# Altium footprint library Resistors.PcbLib: 12 footprints
Each footprint in its own frame and in the unit in brackets; x right, y up, seen from the top. Pads: shape width x height; smd on the part's side, far side on the other; paste and mask are expansions set on the pad; w line width, h text height; cw(c..) or ccw(c..) is an arc to the next point about the centre after c.
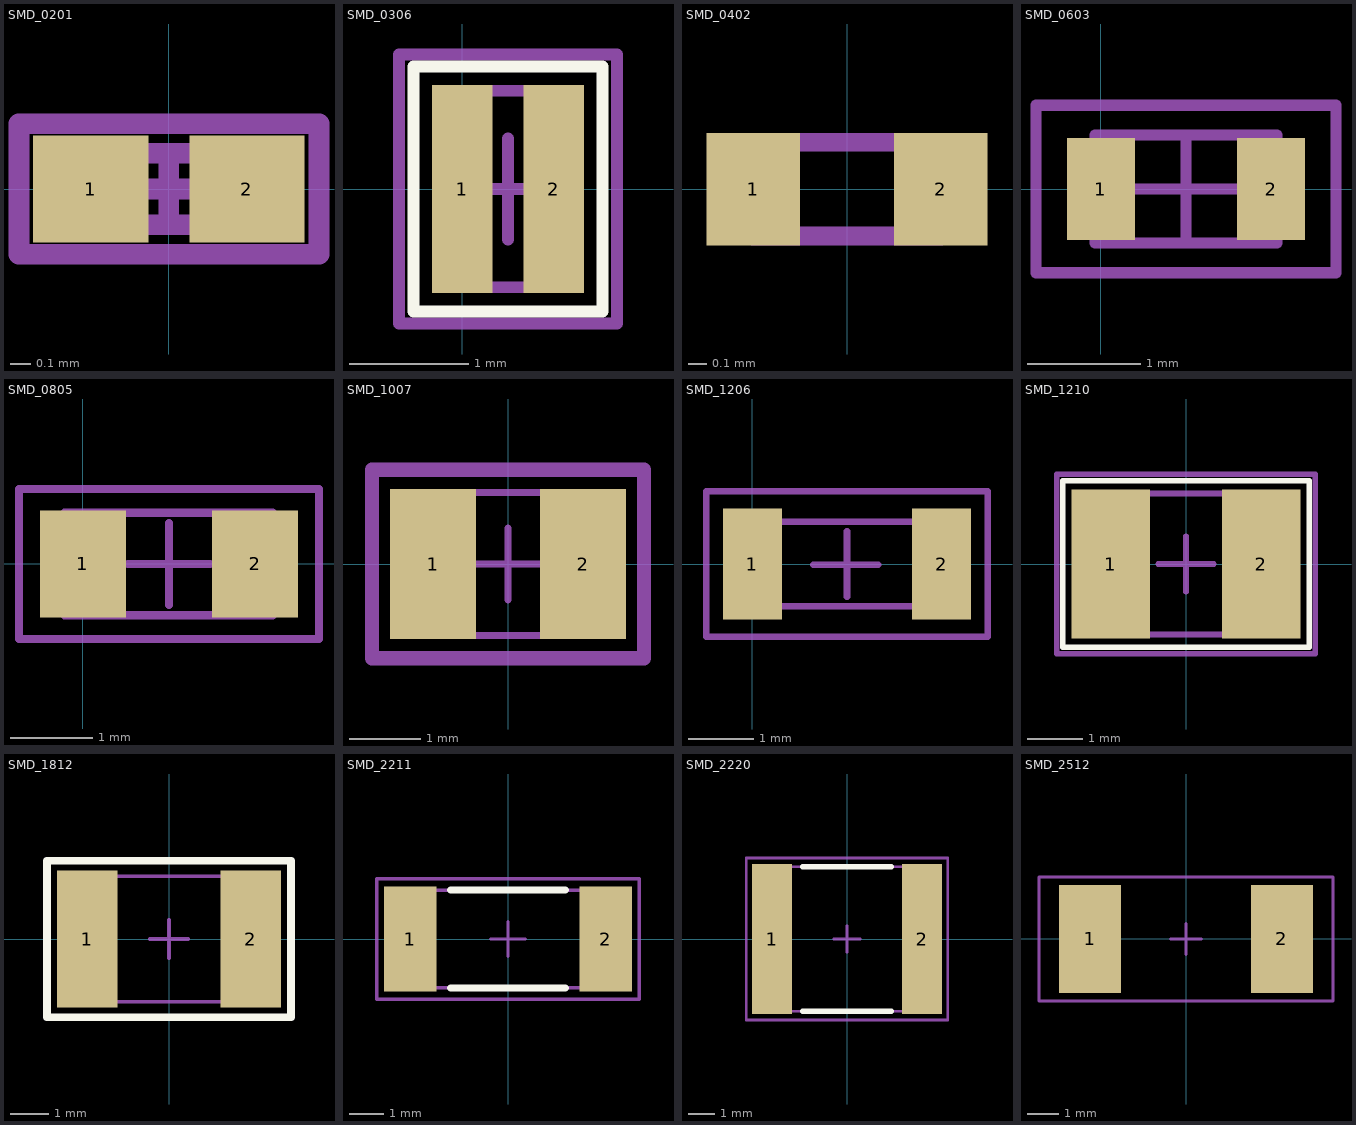
[diagram p0: the footprints below, top view; thin cyan lines are the x and y axes]

## SMD_0201 [mm] "General SMD 0201 footprint."
height 0.3
pads (2):
  rect 0.56x0.52 smd paste-0.051 mask+0: 1(-0.38,0) 2(0.38,0)
Mechanical 13:
  lines w0.1: -0.325,-0.175 0.325,-0.175 0.325,0.175 -0.325,0.175 -0.325,-0.175
Mechanical 15:
  lines w0.1: -0.175,0 0.175,0 ; 0,-0.175 0,0.175 ; -0.729,-0.318 0.731,-0.318 0.731,0.318 -0.729,0.318 -0.729,-0.318
3D body: height 0.3, standoff 0, extent -0.3,-0.15 0.3,0.15

## SMD_0306 [mm] "General SMD 0306 footprint"
height 0.8
pads (2):
  rect 0.508x1.75 smd paste-0.051 mask+0: 1(0,0) 2(0.77,0)
Top Overlay:
  lines w0.102: -0.408,-1.029 -0.408,1.029 1.177,1.029 1.177,-1.029 -0.408,-1.029
Mechanical 13:
  lines w0.1: -0.04,-0.825 -0.04,0.825 0.81,0.825 0.81,-0.825 -0.04,-0.825
Mechanical 15:
  lines w0.1: -0.04,0 0.81,0 ; 0.385,-0.425 0.385,0.425 ; -0.53,-1.13 1.299,-1.13 1.299,1.13 -0.53,1.13 -0.53,-1.13
3D body: height 0.6, standoff 0, extent -0.02,-0.8 0.79,0.8

## SMD_0402 [mm]
height 0.5
pads (2):
  rect 0.5x0.6 smd paste-0.051 mask+0: 1(-0.5,0) 2(0.5,0)
Mechanical 13:
  lines w0.1: -0.5,-0.25 -0.5,0.25 0.5,0.25 0.5,-0.25 -0.5,-0.25
3D body: height 0.6, standoff 0, extent -0.5,-0.25 0.5,0.25

## SMD_0603 [mm] "General SMD 0603 footprint"
height 0.5
pads (2):
  rect 0.6x0.9 smd paste-0.051 mask+0: 1(0,0) 2(1.5,0)
Mechanical 13:
  lines w0.1: -0.05,-0.475 1.55,-0.475 1.55,0.475 -0.05,0.475 -0.05,-0.475
Mechanical 15:
  lines w0.1: 0.275,0 1.225,0 ; 0.75,-0.475 0.75,0.475 ; -0.571,-0.737 -0.571,0.737 2.071,0.737 2.071,-0.737 -0.571,-0.737
3D body: height 0.79, standoff 0, extent -0.25,-0.394 1.75,0.394

## SMD_0805 [mm] "Generic 0805 SMD footprint"
height 0.6
pads (2):
  rect 1.05x1.3 smd paste-0.051 mask+0: 1(0,0) 2(2.1,0)
Mechanical 13:
  lines w0.1: -0.225,-0.625 2.315,-0.625 2.315,0.625 -0.225,0.625 -0.225,-0.625
Mechanical 15:
  lines w0.1: 0.55,0 1.55,0 ; 1.05,-0.5 1.05,0.5 ; -0.779,-0.914 2.879,-0.914 2.879,0.914 -0.779,0.914 -0.779,-0.914
3D body: height 0.79, standoff 0, extent -0.199,-0.612 2.309,0.632

## SMD_1007 [mm]
height 1
pads (2):
  rect 1.2x2.1 smd paste-0.051 mask+0: 1(-1.05,0) 2(1.05,0)
Mechanical 13:
  lines w0.1: -1.35,-1 1.35,-1 1.35,1 -1.35,1 -1.35,-1
Mechanical 15:
  lines w0.1: -0.5,0 0.5,0 ; 0,-0.5 0,0.5
  lines w0.2: -1.905,-1.321 1.905,-1.321 1.905,1.321 -1.905,1.321 -1.905,-1.321
3D body: height 1, standoff 0, extent -1.35,-1 1.35,1

## SMD_1206 [mm] "General SMD 1206 footprint"
height 1.15
pads (2):
  rect 0.9x1.7 smd paste-0.051 mask+0: 1(0,0) 2(2.9,0)
Mechanical 13:
  lines w0.1: -0.105,-0.65 3.095,-0.65 3.095,0.65 -0.105,0.65 -0.105,-0.65
Mechanical 15:
  lines w0.1: 0.93,-0.01 1.93,-0.01 ; 1.45,-0.5 1.45,0.5 ; -0.709,-1.118 3.605,-1.118 3.605,1.118 -0.709,1.118 -0.709,-1.118
3D body: height 1, standoff 0, extent -0.095,-0.79 3.105,0.81

## SMD_1210 [mm] "General SMD 1210 footprint"
height 2.5
pads (2):
  rect 1.425x2.7 smd paste-0.051 mask+0: 1(-1.362,0) 2(1.362,0)
Top Overlay:
  lines w0.102: -2.227,-1.502 -2.227,1.502 2.227,1.502 2.227,-1.502 -2.227,-1.502
Mechanical 13:
  lines w0.1: -1.65,-1.275 1.65,-1.275 1.65,1.275 -1.65,1.275 -1.65,-1.275
Mechanical 15:
  lines w0.1: -0.5,0 0.5,0 ; 0,-0.5 0,0.5 ; -2.337,-1.626 2.337,-1.626 2.337,1.626 -2.337,1.626 -2.337,-1.626
3D body: height 0.55, standoff 0, extent -1.6,-1.25 1.6,1.25

## SMD_1812 [mm] "General SMD 1812 footprint"
height 3.2
pads (2):
  rect 1.6x3.6 smd paste-0.051 mask+0: 1(-2.15,0) 2(2.15,0)
Top Overlay:
  lines w0.2: -3.213,-2.057 3.213,-2.057 3.213,2.057 -3.213,2.057 -3.213,-2.057
Mechanical 13:
  lines w0.1: -2.3,-1.65 -2.3,1.65 2.3,1.65 2.3,-1.65 -2.3,-1.65
Mechanical 15:
  lines w0.1: -0.5,0 0.5,0 ; 0,-0.5 0,0.5 ; -3.213,-2.057 -3.213,2.057 3.213,2.057 3.213,-2.057 -3.213,-2.057
3D body: height 1.6, standoff 0, extent -2.25,-1.6 2.25,1.6

## SMD_2211 [mm] "2211 SMD footprint"
height 1.5
pads (2):
  rect 1.5x3 smd paste-0.051 mask+0: 1(-2.8,0) 2(2.8,0)
Top Overlay:
  lines w0.2: -1.65,-1.4 1.65,-1.4 ; -1.65,1.4 1.65,1.4
Mechanical 13:
  lines w0.1: -3.05,-1.4 -3.05,1.4 3.05,1.4 3.05,-1.4 -3.05,-1.4
Mechanical 15:
  lines w0.1: -0.5,0 0.5,0 ; 0,-0.5 0,0.5 ; -3.759,-1.727 3.759,-1.727 3.759,1.727 -3.759,1.727 -3.759,-1.727
3D body: height 1.5, standoff 0, extent -3.05,-1.4 3.05,1.4

## SMD_2220 [mm]
height 2
pads (2):
  rect 1.5x5.6 smd paste-0.051 mask+0: 1(-2.8,0) 2(2.8,0)
Top Overlay:
  lines w0.2: -1.65,-2.7 1.65,-2.7 ; -1.65,2.7 1.65,2.7
Mechanical 13:
  lines w0.1: -3.05,-2.7 3.05,-2.7 3.05,2.7 -3.05,2.7 -3.05,-2.7
Mechanical 15:
  lines w0.1: -0.5,0 0.5,0 ; 0,-0.5 0,0.5 ; -3.759,-3.023 3.759,-3.023 3.759,3.023 -3.759,3.023 -3.759,-3.023
3D body: height 2.5, standoff 0, extent -2.85,-2.5 2.85,2.5

## SMD_2512 [mm] "General SMD 2512 footprint"
height 0.7
pads (2):
  rect 2x3.5 smd: 1(-3.1,0) 2(3.1,0)
Mechanical 15:
  lines w0.1: -0.5,0 0.5,0 ; 0,-0.5 0,0.5 ; -4.75,-2 4.75,-2 4.75,2 -4.75,2 -4.75,-2
3D body: height 1.6, standoff 0, extent -3.175,-1.5 3.175,1.5